# Altium schematic symbol library Screen.SchLib: 1 symbol
Pins are listed as number, name and electrical type; pins without a type are passive.

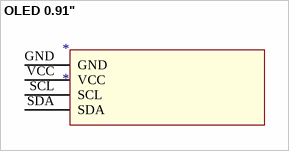
[diagram p0: symbol OLED 0.91"]

## OLED 0.91"
designator *
footprint OLED 0.91"
pins: GND, SCL, SDA, VCC